# Altium schematic symbol library FOTA.SchLib: 44 symbols (part 1 of 2)
Pins are listed as number, name and electrical type; pins without a type are passive.

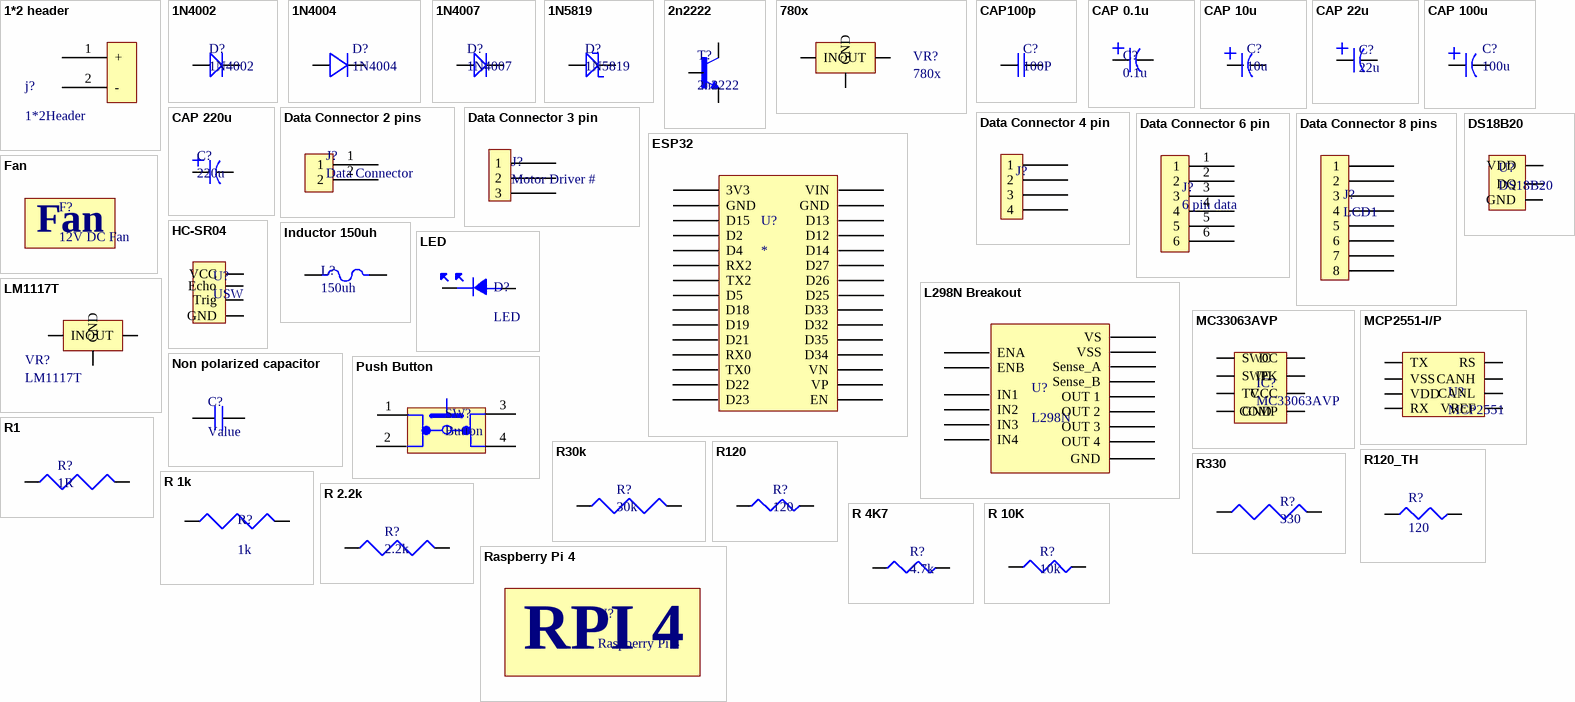
[diagram p0: symbols 1*2 header to Raspberry Pi 4]

## 1*2 header
designator j?, comment 1*2Header
KK 254 Wire-to-Board Header Single Row Vertical 2 Circuits PA Polyamide Nylon Tin (Sn) Plating; Manufacturer 1: Molex; Supplier 1: Arrow Electronics; Manufacturer Part Number 1: 22-03-2021; Stock 1: 78398; Pricing 1: 1=0.23740, 10=0.19080, 100=0.13550, 1000=0.10500, 5000=0.09230, 10000=0.08350 (USD); RoHS: Yes; ComponentLink1URL: https://datasheet.ciiva.com/9468/0022032021-pcb-headers-9468354.pdf?src-supplier=Avnet; ComponentLink1Description: https://datasheet.ciiva.com/9468/0022032021-pcb-headers-9468354.pdf?src-supplier=Avnet; ComponentLink2URL: https://datasheet.ciiva.com/19462/1965656-19462305.pdf?src-supplier=Jameco; ComponentLink2Description: https://datasheet.ciiva.com/19462/1965656-19462305.pdf?src-supplier=Jameco; ComponentLink3URL: https://datasheet.ciiva.com/5148/0022032021-pcb-headers-158299-5148136.pdf?src-supplier=Mouser; ComponentLink3Description: https://datasheet.ciiva.com/5148/0022032021-pcb-headers-158299-5148136.pdf?src-supplier=Mouser; ComponentLink4URL: https://datasheet.ciiva.com/30180/212430022032021-pcb-headers-30180093.pdf?src-supplier=Onlinecomponents.com; ComponentLink4Description: https://datasheet.ciiva.com/30180/212430022032021-pcb-headers-30180093.pdf?src-supplier=Onlinecomponents.com; ComponentLink5URL: https://datasheet.ciiva.com/11746/0900766b80027332-11746319.pdf?src-supplier=RSComponents; ComponentLink5Description: https://datasheet.ciiva.com/11746/0900766b80027332-11746319.pdf?src-supplier=RSComponents; ComponentLink6URL: https://datasheet.ciiva.com/15217/getdatasheetpartid-176622-15217525.pdf?src-supplier=Verical; ComponentLink6Description: https://datasheet.ciiva.com/15217/getdatasheetpartid-176622-15217525.pdf?src-supplier=Verical; ComponentLink7URL: https://datasheet.ciiva.com/7920/7400-7920679.pdf?src-supplier=Element14; ComponentLink7Description: https://datasheet.ciiva.com/7920/7400-7920679.pdf?src-supplier=Element14; ComponentLink8URL: https://datasheet.ciiva.com/1433/1831754-1433541.pdf?src-supplier=Element14; ComponentLink8Description: https://datasheet.ciiva.com/1433/1831754-1433541.pdf?src-supplier=Element14; Supplier Part Number 1: 22-03-2021; category: Connectors
footprint 1*2 PinHeader
pins: 1 +, 2 -

## 1N4002
designator D?
Standard Recovery Rectifier DO-41, 100V, 1.00A; Manufacturer 1: NTE Electronics; Forward Current: 1A; Forward Voltage: 1V; Max Forward Surge Current (Ifsm): 30A; Element Configuration: Single; Capacitance: 15pF; Supplier 1: Allied Electronics; Manufacturer Part Number 1: 1N4002; Stock 1: 0; Pricing 1: 1=0.05000 (USD); RoHS: Yes; Case/Package: DO-41; Number of Pins: 2; Min Operating Temperature: -65°C; Max Operating Temperature: 125°C; Max Repetitive Reverse Voltage (Vrrm): 100V; Polarity: Standard; Packaging: Bulk; Voltage Rating (DC): 100V; Current Rating: 1A; Output Current: 1A; REACH SVHC: No SVHC; Lead Free: Lead Free; RoHS Compliant: Yes; ComponentLink1URL: http://www.alliedelec.com/m/d/37ca6d861d846104cbe1de8cf15a3a7f.pdf?src-supplier=Allied+Electronics; ComponentLink1Description: http://www.alliedelec.com/m/d/37ca6d861d846104cbe1de8cf15a3a7f.pdf?src-supplier=Allied+Electronics; Supplier Part Number 1: 70723001; Category: Discrete Semiconductor Products
footprint Diode
pins: 1, 2

## 1N4004
designator D?
Rectifier Diode, 1 Element, 1A, 400V V(RRM), Silicon, DO-41; Manufacturer 1: ON Semiconductor / Fairchild; Max Surge Current: 30A; Forward Voltage: 1.1V; Max Reverse Current: 5uA; Power Dissipation: 3W; Element Configuration: Single; Polarity: Standard; Capacitance: 15pF; Supplier 1: Digi-Key; Manufacturer Part Number 1: 1N4004; Stock 1: 0; Pricing 1: 1=0.18000, 10=0.16800, 100=0.09120, 500=0.05614, 1000=0.03827 (USD); RoHS: Yes; Mount: Through Hole; Number of Pins: 2; Weight: 0.245g; Contact Plating: Tin,Matte; Min Operating Temperature: -55°C; Max Operating Temperature: 175°C; Packaging: Tape and Reel; Forward Current: 1A; Package Quantity: 1000; Average Rectified Current: 1A; Max Repetitive Reverse Voltage (Vrrm): 400V; Max Forward Surge Current (Ifsm): 30A; Peak Non-Repetitive Surge Current: 30A; Voltage Rating (DC): 400V; Current Rating: 1A; Output Current: 1A; Max Reverse Voltage (DC): 400V; Reverse Voltage: 400V; Diameter: 2.72mm; Length: 5.2mm; Width: 0.25inch; Height: 5.2mm; Radiation Hardening: No; REACH SVHC: No SVHC; Lead Free: Lead Free; RoHS Compliant: Yes; ComponentLink1URL: https://datasheet.ciiva.com/16741/1n4004-16741223.pdf?src-supplier=Future+Electronics; ComponentLink1Description: https://datasheet.ciiva.com/16741/1n4004-16741223.pdf?src-supplier=Future+Electronics; ComponentLink2URL: https://datasheet.ciiva.com/30479/0900766b810c07cd-30479537.pdf?src-supplier=RSComponents; ComponentLink2Description: https://datasheet.ciiva.com/30479/0900766b810c07cd-30479537.pdf?src-supplier=RSComponents; ComponentLink3URL: https://datasheet.ciiva.com/15208/getdatasheetpartid-127807-15208348.pdf?src-supplier=Verical; ComponentLink3Description: https://datasheet.ciiva.com/15208/getdatasheetpartid-127807-15208348.pdf?src-supplier=Verical; ComponentLink4URL: https://datasheet.ciiva.com/7965/1880997-7965279.pdf?src-supplier=Element14; ComponentLink4Description: https://datasheet.ciiva.com/7965/1880997-7965279.pdf?src-supplier=Element14; ComponentLink5URL: https://datasheet.ciiva.com/910/1n4001-910367.pdf?src-supplier=Digi-Key; ComponentLink5Description: https://datasheet.ciiva.com/910/1n4001-910367.pdf?src-supplier=Digi-Key; ComponentLink6URL: https://datasheet.ciiva.com/910/1n4001-910366.pdf?src-supplier=Digi-Key; ComponentLink6Description: https://datasheet.ciiva.com/910/1n4001-910366.pdf?src-supplier=Digi-Key; ComponentLink7URL: https://datasheet.ciiva.com/927/1n4001-d-927543.pdf?src-supplier=Digi-Key; ComponentLink7Description: https://datasheet.ciiva.com/927/1n4001-d-927543.pdf?src-supplier=Digi-Key; ComponentLink8URL: https://datasheet.ciiva.com/48686/001262763-da-01-en-diode-gen-purpose-400v-1n4004-do-41-fsc-48686278.pdf?src-supplier=Conrad; ComponentLink8Description: https://datasheet.ciiva.com/48686/001262763-da-01-en-diode-gen-purpose-400v-1n4004-do-41-fsc-48686278.pdf?src-supplier=Conrad; Supplier Part Number 1: 1N4004FSCT-ND; Category: Discrete Semiconductor Products
footprint Diode
footprint Diode
footprint Diode
pins: 1, 2

## 1N4007
designator D?
Standard Recovery Rectifier DO-41, 1000V, 1.00A; Manufacturer 1: NTE Electronics; Max Reverse Current: 5uA; Forward Current: 1A; Max Repetitive Reverse Voltage (Vrrm): 1kV; Forward Voltage: 480mV; Max Forward Surge Current (Ifsm): 30A; Element Configuration: Single; Capacitance: 15pF; Supplier 1: Allied Electronics; Manufacturer Part Number 1: 1N4007; Stock 1: 7730; Pricing 1: 20=0.07300, 100=0.06900 (USD); RoHS: Yes; Mount: Through Hole; Case/Package: DO-41; Number of Pins: 2; Min Operating Temperature: -65°C; Max Operating Temperature: 150°C; Peak Non-Repetitive Surge Current: 30A; Polarity: Standard; Packaging: Cut Tape; Voltage Rating (DC): 1kV; Current Rating: 1A; Output Current: 1A; REACH SVHC: Unknown; Lead Free: Lead Free; RoHS Compliant: Yes; ComponentLink1URL: https://datasheet.ciiva.com/1239/1n4001-07-1239312.pdf?src-supplier=Newark; ComponentLink1Description: https://datasheet.ciiva.com/1239/1n4001-07-1239312.pdf?src-supplier=Newark; ComponentLink2URL: https://datasheet.ciiva.com/7624/1n4001-07-7624425.pdf?src-supplier=Element14; ComponentLink2Description: https://datasheet.ciiva.com/7624/1n4001-07-7624425.pdf?src-supplier=Element14; ComponentLink3URL: https://datasheet.ciiva.com/16235/1n4001-07-16235595.pdf?src-supplier=Onlinecomponents.com; ComponentLink3Description: https://datasheet.ciiva.com/16235/1n4001-07-16235595.pdf?src-supplier=Onlinecomponents.com; Supplier Part Number 1: 70723033; Category: Discrete Semiconductor Products
footprint Diode
pins: 1 3, 2

## 1N5819
designator D?
Schottky Diode, DO-15, 40V, 1.00A; Manufacturer 1: STMicroelectronics; Max Surge Current: 25A; Forward Current: 1A; Max Reverse Current: 500uA; Forward Voltage: 550mV; Element Configuration: Single; Polarity: Standard; Capacitance: 110pF; Supplier 1: Arrow Electronics; Manufacturer Part Number 1: 1N5819; Stock 1: 8000; Pricing 1: 2000=0.08590 (USD); RoHS: Yes; Mount: Through Hole; Case/Package: DO-41; Number of Pins: 2; Weight: 0.01lb; Contact Plating: Tin,Matte; Min Operating Temperature: -65°C; Max Operating Temperature: 150°C; Package Quantity: 2000; Packaging: Cut Tape; Average Rectified Current: 1A; Max Reverse Leakage Current: 500uA; Max Repetitive Reverse Voltage (Vrrm): 40V; Max Forward Surge Current (Ifsm): 25A; Peak Non-Repetitive Surge Current: 25A; Voltage Rating (DC): 40V; Current Rating: 1A; Output Current: 1A; Max Reverse Voltage (DC): 40V; Series: -; Diameter: 2.71mm; Length: 5.2mm; Width: 2.7mm; Height: 2.7mm; Radiation Hardening: No; REACH SVHC: No SVHC; Lead Free: Lead Free; RoHS Compliant: Yes; ComponentLink1URL: https://datasheet.ciiva.com/26338/155460-da-01-en-diode-1n5819-stm-26338798.pdf?src-supplier=Conrad; ComponentLink1Description: https://datasheet.ciiva.com/26338/155460-da-01-en-diode-1n5819-stm-26338798.pdf?src-supplier=Conrad; ComponentLink2URL: https://datasheet.ciiva.com/16303/cd00001625-16303290.pdf?src-supplier=Future+Electronics; ComponentLink2Description: https://datasheet.ciiva.com/16303/cd00001625-16303290.pdf?src-supplier=Future+Electronics; ComponentLink3URL: https://datasheet.ciiva.com/915/cd00001625-915556.pdf?src-supplier=Digi-Key; ComponentLink3Description: https://datasheet.ciiva.com/915/cd00001625-915556.pdf?src-supplier=Digi-Key; ComponentLink4URL: https://datasheet.ciiva.com/915/cd00001625-915555.pdf?src-supplier=Digi-Key; ComponentLink4Description: https://datasheet.ciiva.com/915/cd00001625-915555.pdf?src-supplier=Digi-Key; ComponentLink5URL: https://datasheet.ciiva.com/14557/70013816-14557645.pdf?src-supplier=Allied+Electronics; ComponentLink5Description: https://datasheet.ciiva.com/14557/70013816-14557645.pdf?src-supplier=Allied+Electronics; ComponentLink6URL: https://datasheet.ciiva.com/1177/1449529-1177085.pdf?src-supplier=Element14; ComponentLink6Description: https://datasheet.ciiva.com/1177/1449529-1177085.pdf?src-supplier=Element14; Supplier Part Number 1: 1N5819; Category: Discrete Semiconductor Products
footprint Diode
pins: 1, 2

## 2n2222
designator T?
footprint TRANS
pins: 1 E, 2 B, 3 C

## 780x
designator VR?
Linear Voltage Regulator, 1 A, 5 to 24 V, Positive Vout: 5.0 V; TJ = -40°C to +125°C; Manufacturer 1: ON Semiconductor; Manufacturer Part Number 1: MC7805ABTG; Max Input Voltage: 35V; Dropout Voltage: 2V; Output Current: 1A; Number of Outputs: 1; Output Voltage: 5V; Min Input Voltage: 7V; Quiescent Current: 6mA; Accuracy: 4%; Power Supply Rejection Ratio (PSRR): 83dB; Output Type: Fixed; Supplier 1: Arrow Electronics; Stock 1: 178; Pricing 1: 1=1.02250, 10=0.81140, 100=0.63460, 250=0.57590 (USD); RoHS: Yes; Mount: Through Hole; Case/Package: TO-220; Number of Pins: 3; Weight: 0.01lb; Contact Plating: Tin,Matte; Min Operating Temperature: -40°C; Max Operating Temperature: 125°C; Packaging: Rail/Tube; Nominal Output Voltage: 5V; Max Output Current: 1A; Package Quantity: 50; Polarity: Positive; Number of Regulators: 1; Min Output Voltage: 5V; Output Voltage Accuracy: 4%; Series: -; Length: 10.28mm; Width: 4.82mm; Height: 30.02mm; Radiation Hardening: No; REACH SVHC: No SVHC; Lead Free: Lead Free; Halogen Free: Halogen Free; RoHS Compliant: Yes; ComponentLink1URL: https://datasheet.ciiva.com/8073/87758-8073882.pdf?src-supplier=Element14; ComponentLink1Description: https://datasheet.ciiva.com/8073/87758-8073882.pdf?src-supplier=Element14; ComponentLink2URL: https://datasheet.ciiva.com/28643/1726421-28643195.pdf?src-supplier=Element14; ComponentLink2Description: https://datasheet.ciiva.com/28643/1726421-28643195.pdf?src-supplier=Element14; ComponentLink3URL: https://datasheet.ciiva.com/8234/mc7800-d-8234030.pdf?src-supplier=Avnet; ComponentLink3Description: https://datasheet.ciiva.com/8234/mc7800-d-8234030.pdf?src-supplier=Avnet; ComponentLink4URL: https://datasheet.ciiva.com/16449/mc7800-d-16449742.pdf?src-supplier=Future+Electronics; ComponentLink4Description: https://datasheet.ciiva.com/16449/mc7800-d-16449742.pdf?src-supplier=Future+Electronics; ComponentLink5URL: https://datasheet.ciiva.com/2044/mc7800-d-2044463.pdf?src-supplier=Digi-Key; ComponentLink5Description: https://datasheet.ciiva.com/2044/mc7800-d-2044463.pdf?src-supplier=Digi-Key; Category: Integrated Circuits (ICs); Supplier Part Number 1: MC7805ABTG
footprint 78xx
pins: 1 IN, 2 GND, 3 OUT

## CAP100p
designator C?, comment 100P
Cap Ceramic 100pF 3000V C0G 5% Radial 5.08mm 125°C Extreme Low ESR Bulk; Manufacturer 1: KEMET; Manufacturer Part Number 1: C330C101JHG5TA; Voltage Rating: 3kV; Temperature Coefficient: 30ppm/°C; Dissipation Factor: 0.1%; Lead/Base Style: Straight; Lead Diameter: 0.51mm; Lead Length: 7mm; Supplier 1: Arrow Electronics; Stock 1: 250; Pricing 1: 1=2.48600, 10=1.69970, 25=1.68270, 50=1.50330, 100=1.27620, 500=0.99250 (USD); RoHS: Yes; Mount: Through Hole; Case/Package: Radial; Number of Pins: 2; Min Operating Temperature: -55°C; Max Operating Temperature: 125°C; Capacitance: 100pF; Tolerance: 5%; Dielectric: C0G; Packaging: Bulk; Termination: Radial; Voltage Rating (DC): 3kV; Package Quantity: 250; Length: 7.62mm; Width: 7.62mm; Height: 3.81mm; Lead Pitch: 5.08mm; Depth: 6.35mm; Height - Seated (Max): 0.36inch; Pitch: 5.08mm; Radiation Hardening: No; RoHS Compliant: Yes; REACH SVHC: No SVHC; Lead Free: Lead Free; ComponentLink1URL: https://datasheet.ciiva.com/28645/706880-28645882.pdf?src-supplier=Element14; ComponentLink1Description: https://datasheet.ciiva.com/28645/706880-28645882.pdf?src-supplier=Element14; ComponentLink2URL: https://datasheet.ciiva.com/41659/f3101-goldmax-41659614.pdf?src-supplier=Farnell; ComponentLink2Description: https://datasheet.ciiva.com/41659/f3101-goldmax-41659614.pdf?src-supplier=Farnell; ComponentLink3URL: https://datasheet.ciiva.com/203/f3101-goldmax-203490.pdf?src-supplier=Digi-Key; ComponentLink3Description: https://datasheet.ciiva.com/203/f3101-goldmax-203490.pdf?src-supplier=Digi-Key; Category: Capacitors; Supplier Part Number 1: C330C101JHG5TA
footprint 100p
pins: 1, 2

## CAP 0.1u
designator C?, comment 0.1u
Capacitor 0.1 uF 100 Volt 20% 5 X 11mm Radial 2mm 2.1mA 2000 Hr; Manufacturer 1: Nichicon; Manufacturer Part Number 1: UVR2A0R1MDD; Dielectric Material: Aluminium; Capacitance: 100nF; Voltage Rating: 100V; Leakage Current: 4uA; Life (Hours): 2000Hour; Dissipation Factor: 0.08%; Lead Diameter: 0.5mm; Supplier 1: Arrow Electronics; Stock 1: 37; Pricing 1: 1=0.27830, 10=0.18880, 50=0.12550, 100=0.08990, 600=0.07330, 1000=0.06380, 2000=0.05950, 5000=0.05890, 10000=0.05840 (USD); RoHS: Yes; Mount: Through Hole,PCB; Case/Package: Radial; Number of Pins: 2; Min Operating Temperature: -40°C; Max Operating Temperature: 85°C; Package Quantity: 200; Tolerance: 20%; Ripple Current: 2.1mA; Packaging: Bulk; Voltage Rating (DC): 100V; Termination: Radial; Voltage: 100V; Series: VR; Construction: RADIAL; Diameter: 5mm; Length: 11mm; Height: 11mm; Lead Pitch: 2mm; Height - Seated (Max): 0.433inch; Radiation Hardening: No; Lead Free: Lead Free; RoHS Compliant: Yes; ComponentLink1URL: https://datasheet.ciiva.com/97/e-vr-97344.pdf?src-supplier=Digi-Key; ComponentLink1Description: https://datasheet.ciiva.com/97/e-vr-97344.pdf?src-supplier=Digi-Key; ComponentLink2URL: https://datasheet.ciiva.com/14587/70187464-14587865.pdf?src-supplier=Allied+Electronics; ComponentLink2Description: https://datasheet.ciiva.com/14587/70187464-14587865.pdf?src-supplier=Allied+Electronics; ComponentLink3URL: https://datasheet.ciiva.com/11688/e-vr-11688671.pdf?src-supplier=Avnet; ComponentLink3Description: https://datasheet.ciiva.com/11688/e-vr-11688671.pdf?src-supplier=Avnet; Supplier Part Number 1: UVR2A0R1MDD; Category: Capacitor
footprint CapacitorPOL
pins: 1 3, 2

## CAP 10u
designator C?, comment 10u
10uF 35 V dc Aluminium Electrolytic Capacitor; BX Series 1000h 10(Dia.)x12.5mm; Manufacturer 1: Nichicon; Manufacturer Part Number 1: UBX1V100MPL; Tolerance: 20%; Ripple Current: 175mA; Voltage Rating: 35V; Leakage Current: 4uA; Life (Hours): 1000Hour; Dissipation Factor: 0.12%; Lead Diameter: 0.6mm; Supplier 1: Digi-Key; Stock 1: 5; Pricing 1: 1=1.40000, 10=1.10300, 50=0.95620, 100=0.82750, 500=0.62520, 1000=0.55166, 2500=0.51488, 5000=0.49649 (USD); RoHS: Yes; Mount: Through Hole; Case/Package: Radial; Min Operating Temperature: -55°C; Max Operating Temperature: 150°C; Capacitance: 10uF; Package Quantity: 200; Packaging: Bulk; Voltage Rating (DC): 35V; Termination: Radial; Voltage: 35V; Series: UBX; Construction: RADIAL; Diameter: 10mm; Length: 12.5mm; Height: 12.5mm; Lead Pitch: 5mm; Height - Seated (Max): 0.551inch; Radiation Hardening: No; RoHS Compliant: Yes; ComponentLink1URL: https://datasheet.ciiva.com/11778/0900766b80ec9534-11778134.pdf?src-supplier=RSComponents; ComponentLink1Description: https://datasheet.ciiva.com/11778/0900766b80ec9534-11778134.pdf?src-supplier=RSComponents; ComponentLink2URL: https://datasheet.ciiva.com/41750/444350-da-01-en-radial-elko-bx-10uf-35-v-41750976.pdf?src-supplier=Conrad; ComponentLink2Description: https://datasheet.ciiva.com/41750/444350-da-01-en-radial-elko-bx-10uf-35-v-41750976.pdf?src-supplier=Conrad; ComponentLink3URL: https://datasheet.ciiva.com/115/e-bx-115042.pdf?src-supplier=Digi-Key; ComponentLink3Description: https://datasheet.ciiva.com/115/e-bx-115042.pdf?src-supplier=Digi-Key; Category: Capacitor; Supplier Part Number 1: 493-14906-ND
footprint CapacitorPOL
pins: 1 3, 2

## CAP 22u
designator C?, comment 22u
Aluminum Electrolytic Capacitor 22 microfarad 50 VDC; Manufacturer 1: CDE Illinois Capacitor; Manufacturer Part Number 1: 226CKH050M; Dielectric Material: Aluminium; Ripple Current: 80mA; Capacitance: 22uF; Tolerance: 20%; Voltage Rating: 50V; ESR (Equivalent Series Resistance): 7.536R; Polarity: Polar; Life (Hours): 2000Hour; Supplier 1: Farnell; Stock 1: 2; Pricing 1: 1=0.20800, 2=0.18000, 3=0.15200, 5=0.12400, 10=0.09660, 20=0.09470, 50=0.09270 (GBP); RoHS: Yes; Mount: Through Hole,PCB; Case/Package: Radial; Number of Pins: 2; Min Operating Temperature: -40°C; Max Operating Temperature: 105°C; Voltage Rating (DC): 50V; Package Quantity: 1000; Packaging: Bulk; Diameter: 5mm; Height: 11mm; Lead Pitch: 0.079inch; Height - Seated (Max): 0.492inch; REACH SVHC: No SVHC; Lead Free: Lead Free; ComponentLink1URL: https://datasheet.ciiva.com/16368/lytics-products-detail-623-16368212.pdf?src-supplier=Future+Electronics; ComponentLink1Description: https://datasheet.ciiva.com/16368/lytics-products-detail-623-16368212.pdf?src-supplier=Future+Electronics; ComponentLink2URL: https://datasheet.ciiva.com/14588/70111748-14588463.pdf?src-supplier=Allied+Electronics; ComponentLink2Description: https://datasheet.ciiva.com/14588/70111748-14588463.pdf?src-supplier=Allied+Electronics; Supplier Part Number 1: 2841829
footprint CapacitorPOL
pins: 1 3, 2

## CAP 100u
designator C?, comment 100u
Cap Aluminum 100uF 25V 20% (10 X 12mm) Radial Aluminum Cylindrical Can 5mm 250mA 1000 hr 150°C Bulk; Manufacturer 1: Vishay BCcomponents; Manufacturer Part Number 1: MAL216056101E3; Polarity: Polar; Ripple Current: 175mA; Impedance: 120mR; Life (Hours): 1000Hour; Supplier 1: Digi-Key; Stock 1: 2988; Pricing 1: 1=1.67000, 10=1.31800, 50=1.14220, 100=0.98840, 500=0.74680, 1000=0.65895, 2500=0.61502, 5000=0.59306 (USD); RoHS: Yes; Mount: Through Hole; Case/Package: Radial; Min Operating Temperature: -55°C; Max Operating Temperature: 150°C; Package Quantity: 1000; Packaging: Bulk; Capacitance: 100uF; Voltage Rating: 25V; Tolerance: 20%; Voltage Rating (DC): 25V; Diameter: 10mm; Height: 12mm; Lead Pitch: 0.197inch; Height - Seated (Max): 0.531inch; REACH SVHC: Unknown; RoHS Compliant: Yes; ComponentLink1URL: http://www.farnell.com/datasheets/2057608.pdf?src-supplier=Element14; ComponentLink1Description: http://www.farnell.com/datasheets/2057608.pdf?src-supplier=Element14; ComponentLink2URL: http://www.vishay.com/docs/49448/_alu_caps_smd_radial_axial_vmn-sg2185-1512.pdf?src-supplier=Digi-Key; ComponentLink2Description: http://www.vishay.com/docs/49448/_alu_caps_smd_radial_axial_vmn-sg2185-1512.pdf?src-supplier=Digi-Key; Supplier Part Number 1: 4837PHBK-ND; Category: Capacitors
footprint CapacitorPOL
pins: 1 3, 2

## CAP 220u
designator C?, comment 220u
Cap Aluminum Lytic 220uF 35V 20% (8 X 11.5mm) Radial 3.5mm 945mA 8000h 105C Ammo Pack; Manufacturer 1: Rubycon; Manufacturer Part Number 1: 35ZLH220MEFCT78X11.5; Ripple Current: 472.5mA; Impedance: 56mR; Life (Hours): 8000Hour; Supplier 1: Digi-Key; Stock 1: 214966; Pricing 1: 1=0.49000, 10=0.34200, 50=0.23940, 100=0.20530, 500=0.15396 (USD); RoHS: Yes; Mount: Through Hole; Case/Package: Radial; Min Operating Temperature: -40°C; Max Operating Temperature: 105°C; Capacitance: 220uF; Tolerance: 20%; Package Quantity: 2000; Packaging: Tape and Reel; Voltage Rating: 35V; Termination: Radial; Series: ZLH; Diameter: 8mm; Height: 11.5mm; Lead Pitch: 0.138inch; Height - Seated (Max): 0.512inch; Radiation Hardening: No; RoHS Compliant: Yes; ComponentLink1URL: https://datasheet.ciiva.com/11691/e-zlh-11691624.pdf?src-supplier=Avnet; ComponentLink1Description: https://datasheet.ciiva.com/11691/e-zlh-11691624.pdf?src-supplier=Avnet; Supplier Part Number 1: 1189-4002-1-ND; Category: Capacitors
pins: 1 3, 2

## Data Connector 2 pins
designator J?, comment Data Connector
footprint Data Connnector 2 pins
footprint Data Connnector 2 pins
pins: 1, 2

## Data Connector 3 pin
designator J?, comment Motor Driver #
footprint Data Connnector 3 pins
pins: 1, 2, 3

## Data Connector 4 pin
designator J?
footprint Data Connnector 4 pins
pins: 1, 2, 3, 4

## Data Connector 6 pin
designator J?, comment 6 pin data
footprint Data Connnector 6 pins
pins: 1, 2, 3, 4, 5, 6

## Data Connector 8 pins
designator J?, comment LCD1
footprint Data Connector 8 pins
pins: 1, 2, 3, 4, 5, 6, 7, 8

## DS18B20
designator U?
SENSOR TEMPERATURE 1-WIRE TO92-3; Manufacturer 1: Maxim; Manufacturer Part Number 1: DS18B20+; Min Supply Voltage: 3V; Max Supply Voltage: 5.5V; Interface: 1-WIRE,Serial; Resolution: 12b; Output Type: Digital,Voltage; Operating Supply Current: 1.5mA; Number of Bits: 12; Nominal Supply Current: 1mA; Output Current: 4mA; Supplier 1: Future Electronics; Stock 1: 0; Pricing 1: 1=5.05000, 10=4.56000, 25=4.38000, 75=4.17000, 150=4.04000 (USD); RoHS: Yes; Mount: PCB,Through Hole; Case/Package: TO-92-3; Number of Pins: 3; Weight: 0.001lb; Min Operating Temperature: -55°C; Max Operating Temperature: 125°C; Packaging: Rail/Tube; Package Quantity: 10; Series: DS18B20; Max Supply Voltage (DC): 5.5V; Min Supply Voltage (DC): 3V; Termination: SMD/SMT; Supply Current: 1mA; Sensor Type: Temperature; Length: 4.95mm; Width: 3.94mm; Height: 4.95mm; Radiation Hardening: No; RoHS Compliant: Yes; REACH SVHC: No SVHC; Lead Free: Lead Free; ComponentLink1URL: https://datasheet.ciiva.com/14100/ds18b20-eng-tds-14100018.pdf?src-supplier=Distrelec; ComponentLink1Description: https://datasheet.ciiva.com/14100/ds18b20-eng-tds-14100018.pdf?src-supplier=Distrelec; ComponentLink2URL: https://datasheet.ciiva.com/19456/865936-19456316.pdf?src-supplier=Jameco; ComponentLink2Description: https://datasheet.ciiva.com/19456/865936-19456316.pdf?src-supplier=Jameco; ComponentLink3URL: https://datasheet.ciiva.com/23809/46379-23809287.pdf?src-supplier=Newark; ComponentLink3Description: https://datasheet.ciiva.com/23809/46379-23809287.pdf?src-supplier=Newark; ComponentLink4URL: https://datasheet.ciiva.com/5696/ds18s20-5696782.pdf?src-supplier=Farnell; ComponentLink4Description: https://datasheet.ciiva.com/5696/ds18s20-5696782.pdf?src-supplier=Farnell; ComponentLink5URL: https://datasheet.ciiva.com/3277/ds18b20-3277869.pdf?src-supplier=Avnet; ComponentLink5Description: https://datasheet.ciiva.com/3277/ds18b20-3277869.pdf?src-supplier=Avnet; ComponentLink6URL: https://datasheet.ciiva.com/2003/ds18b20-2003437.pdf?src-supplier=Digi-Key; ComponentLink6Description: https://datasheet.ciiva.com/2003/ds18b20-2003437.pdf?src-supplier=Digi-Key; Supplier Part Number 1: 6084674
footprint tmp
pins: 1 VDD, 2 DQ, 3 GND

## ESP32
designator U?
footprint ESP32
pins: 1 3V3, 2 GND, 3 D15, 4 D2, 5 D4, 6 RX2, 7 TX2, 8 D5, 9 D18, 10 D19, 11 D21, 12 RX0, 13 TX0, 14 D22, 15 D23, 16 EN, 17 VP, 18 VN, 19 D34, 20 D35, 21 D32, 22 D33, 23 D25, 24 D26, 25 D27, 26 D14, 27 D12, 28 D13, 29 GND, 30 VIN

## Fan
designator F?, comment 12V DC Fan
footprint Fan

## HC-SR04
designator U?, comment USW
Ultrasonic Sensor Module, Rectangular, 20-4000 mm, 5 V, 15 mA, Arduino Compatible; Manufacturer 1: OSEPP; Manufacturer Part Number 1: HC-SR04; Supplier 1: Mouser; Stock 1: 154; Pricing 1: 1=6.55000, 10=6.55000, 50=6.55000, 100=6.55000, 1000=6.55000, 10000=6.55000 (USD); ComponentLink1URL: http://www.alliedelec.com/m/d/24ef524bf2e055bb41c3e7d4403161f4.pdf?src-supplier=Allied+Electronics; ComponentLink1Description: http://www.alliedelec.com/m/d/24ef524bf2e055bb41c3e7d4403161f4.pdf?src-supplier=Allied+Electronics; ComponentLink2URL: https://datasheet.octopart.com/HC-SR04-OSEPP-datasheet-46721640.pdf?src-supplier=Allied+Electronics; ComponentLink2Description: https://datasheet.octopart.com/HC-SR04-OSEPP-datasheet-46721640.pdf?src-supplier=Allied+Electronics; Supplier Part Number 1: 375-HC-SR04; Category: Development Boards, Kits, Programmers
footprint hc-sr04
pins: 1 VCC, 2 Trig, 3 Echo, 4 GND

## Inductor 150uh
designator L?, comment 150uh
Inductor General Purpose Wirewound 150uH 10% 1KHz 820mA 330mOhm DCR RDL Carton; Manufacturer 1: Murata; Manufacturer Part Number 1: 13R154C; Shielding: Unshielded; DC Resistance (DCR): 330mR; Lead/Base Style: Radial; Lead Diameter: 0.65mm; Supplier 1: Arrow Electronics; Stock 1: 161; Pricing 1: 1=0.54070 (USD); RoHS: Yes; Mount: Through Hole; Case/Package: Radial; Number of Pins: 2; Contact Plating: Tin,Bright; Min Operating Temperature: -40°C; Max Operating Temperature: 85°C; Inductance Tolerance: 10%; Package Quantity: 200; Current Rating: 820mA; Tolerance: 10%; Packaging: Bulk; Resistor Type: Wirewound; Inductance: 150uH; Test Frequency: 1kHz; Max DC Current: 820mA; Termination: Radial; RMS Current (Irms): 820mA; Saturation Current: 820mA; DC Current: 820mA; Self Resonant Frequency: 1kHz; Type: General Purpose; Diameter: 9.5mm; Length: 13.5mm; Height: 13.5mm; Height - Seated (Max): 0.531inch; Lead Pitch: 5mm; Radiation Hardening: No; REACH SVHC: No SVHC; Military Standard: Not; RoHS Compliant: Yes; ComponentLink1URL: https://datasheet.ciiva.com/8110/kmp-1300r-8110602.pdf?src-supplier=Avnet; ComponentLink1Description: https://datasheet.ciiva.com/8110/kmp-1300r-8110602.pdf?src-supplier=Avnet; ComponentLink2URL: https://datasheet.ciiva.com/8035/1484721-8035661.pdf?src-supplier=Element14; ComponentLink2Description: https://datasheet.ciiva.com/8035/1484721-8035661.pdf?src-supplier=Element14; ComponentLink3URL: https://datasheet.ciiva.com/1127/1484721-1127957.pdf?src-supplier=Element14; ComponentLink3Description: https://datasheet.ciiva.com/1127/1484721-1127957.pdf?src-supplier=Element14; ComponentLink4URL: https://datasheet.ciiva.com/1061/kmp-1300r-1061302.pdf?src-supplier=Digi-Key; ComponentLink4Description: https://datasheet.ciiva.com/1061/kmp-1300r-1061302.pdf?src-supplier=Digi-Key; Supplier Part Number 1: 13R154C; Category: Inductors, Coils, Chokes
footprint 150ul
pins: 1, 2

## L298N Breakout
designator U?, comment L298N
footprint L298
pins: 1 OUT 4, 2 OUT 3, 3 OUT 2, 4 OUT 1, 5 IN4, 6 IN3, 7 IN2, 8 IN1, 9 ENB, 10 ENA, 11 Sense_B, 12 Sense_A, 13 VSS, 14 VS, 15 GND

## LED
designator D?
Led, Red, T-1 (3Mm), 630 Nm, 1.8 V, 30 Ma, 20 Mcd Rohs Compliant: Yes; Manufacturer 1: Wurth Electronics; Manufacturer Part Number 1: 151031SS06000; Wavelength: 630nm; Luminous Intensity: 35mcd; Viewing Angle: 60°; Forward Voltage: 2.2V; Lens Style: Diffused,Circular,Round; Dominant Wavelength: 640nm; Test Current: 20mA; Forward Current: 30mA; Supplier 1: Digi-Key; Stock 1: 4849; Pricing 1: 1=0.18000, 50=0.16700, 100=0.14300, 500=0.12300 (USD); RoHS: Yes; Mount: Through Hole; Case/Package: Radial; Color: Red; Min Operating Temperature: -40°C; Max Operating Temperature: 85°C; Package Quantity: 1; Packaging: Bulk; Height: 5.55mm; Lens Size: 3mm; REACH SVHC: Unknown; RoHS Compliant: Yes; ComponentLink1URL: https://datasheet.ciiva.com/22657/151031ss06000-22657010.pdf?src-supplier=Element14; ComponentLink1Description: https://datasheet.ciiva.com/22657/151031ss06000-22657010.pdf?src-supplier=Element14; ComponentLink2URL: https://datasheet.ciiva.com/29335/759483-da-01-en-tht-led-3mm-superrot-151031ss06000-29335440.pdf?src-supplier=Conrad; ComponentLink2Description: https://datasheet.ciiva.com/29335/759483-da-01-en-tht-led-3mm-superrot-151031ss06000-29335440.pdf?src-supplier=Conrad; ComponentLink3URL: https://datasheet.ciiva.com/29562/151031ss06000-29562907.pdf?src-supplier=Digi-Key; ComponentLink3Description: https://datasheet.ciiva.com/29562/151031ss06000-29562907.pdf?src-supplier=Digi-Key; Supplier Part Number 1: 732-5006-ND; Category: Optoelectronics
footprint LED
pins: 1, 2

## LM1117T
designator VR?
LDO VOLTAGE REGULATOR, 5V, 0.8A, TO-220; ; MSL: MSL 1 - Unlimited; SVHC: No SVHC (15-Jan-2019); Manufacturer 1: TI National Semiconductor; Manufacturer Part Number 1: LM1117T-5.0/NOPB; Dropout Voltage: 1.2V; Output Current: 800mA; Number of Outputs: 1; Max Input Voltage: 15V; Polarity: Positive; Quiescent Current: 5mA; Accuracy: 1%; Output Type: Fixed; Supplier 1: Digi-Key; Stock 1: 16540; Pricing 1: 1=1.77000, 10=1.59000, 25=1.50000, 100=1.27790, 250=1.19992, 500=1.04992, 1000=0.99050 (USD); RoHS: Yes; Mount: Through Hole; Case/Package: TO-220; Number of Pins: 3; Weight: 0.01lb; Contact Plating: Tin,Matte; Min Operating Temperature: -40°C; Max Operating Temperature: 125°C; Package Quantity: 45; Output Voltage: 5V; Packaging: Rail/Tube; Max Output Current: 800mA; Nominal Output Voltage: 5V; Number of Regulators: 1; Min Current Limit: 800mA; Output Voltage Accuracy: 1%; Length: 10.16mm; Width: 4.7mm; Height: 8.89mm; Radiation Hardening: No; REACH SVHC: No SVHC; Lead Free: Lead Free; RoHS Compliant: Yes; ComponentLink1URL: https://datasheet.ciiva.com/27055/1992099-27055812.pdf?src-supplier=Jameco; ComponentLink1Description: https://datasheet.ciiva.com/27055/1992099-27055812.pdf?src-supplier=Jameco; ComponentLink2URL: https://datasheet.ciiva.com/41457/001013631-da-01-en-ic-reg-ldo-lm1117t-5-0-nopb-to-220-3-tid-41457413.pdf?src-supplier=Conrad; ComponentLink2Description: https://datasheet.ciiva.com/41457/001013631-da-01-en-ic-reg-ldo-lm1117t-5-0-nopb-to-220-3-tid-41457413.pdf?src-supplier=Conrad; ComponentLink3URL: https://datasheet.ciiva.com/14150/ialm1117t-e-14150011.pdf?src-supplier=Distrelec; ComponentLink3Description: https://datasheet.ciiva.com/14150/ialm1117t-e-14150011.pdf?src-supplier=Distrelec; ComponentLink4URL: https://datasheet.ciiva.com/6580/lm1117-n-6580309.pdf?src-supplier=Digi-Key; ComponentLink4Description: https://datasheet.ciiva.com/6580/lm1117-n-6580309.pdf?src-supplier=Digi-Key; Supplier Part Number 1: LM1117T-5.0/NOPB-ND
footprint LM1117T
pins: 1 IN, 2 GND, 3 OUT

## MC33063AVP
designator IC?
DC DC Cntrlr Single-OUT Step Up/Step Down 3V to 40V Input 8-Pin PDIP; Manufacturer 1: ON Semiconductor; Number of Outputs: 1; Switching Frequency: 33kHz; Output Current: 1.5A; Synchronous Rectifier: No; Output Type: Adjustable; Supplier 1: Avnet; Manufacturer Part Number 1: MC33063AVP; Stock 1: 200662; Pricing 1: 1233=0.30014, 1300=0.29203, 2500=0.28392, 6200=0.27581, 13000=0.26770, 62000=0.25958, 130000=0.25147 (USD); RoHS: No; Mount: Through Hole; Case/Package: DIP; Number of Pins: 8; Min Operating Temperature: -40°C; Max Operating Temperature: 125°C; Packaging: Rail/Tube; Package Quantity: 50; Output Voltage: 40V; Series: -; Lead Free: Contains Lead; RoHS Compliant: No; ComponentLink1URL: https://datasheet.ciiva.com/2038/mc34063a-d-2038137.pdf?src-supplier=Digi-Key; ComponentLink1Description: https://datasheet.ciiva.com/2038/mc34063a-d-2038137.pdf?src-supplier=Digi-Key; Parameter 1: *
footprint DIP10
pins: 1 DC, 2 IPK, 3 VCC, 4 COMP, 5 SWC, 6 SWE, 7 TC, 8 GND

## MCP2551-I/P
designator U?, comment MCP2551
MCP2551 Series 5.5 V 1 Mb/s Surface Mount High-Speed CAN Transceiver - PDIP-8; Manufacturer 1: Microchip; Manufacturer Part Number 1: MCP2551-I/P; Interface: Serial,CAN; Number of Receivers: 1; Operating Supply Voltage: 5V; Nominal Supply Current: 75mA; Data Rate: 1Mbps; Min Supply Voltage: 4.5V; Max Supply Voltage: 5.5V; Supplier 1: Future Electronics; Stock 1: 570; Pricing 1: 1=1.75000, 30=1.57000, 100=1.51000, 300=1.46000, 1000=1.40000 (USD); RoHS: Yes; Mount: Through Hole; Case/Package: PDIP; Number of Pins: 8; Min Operating Temperature: -40°C; Max Operating Temperature: 85°C; Package Quantity: 60; Packaging: Rail/Tube; Number of Drivers: 1; Number of Receive Buffers: 1; Number of Transmit Buffers: 1; Max Supply Current: 75mA; Number of Transceivers: 1; Logic Function: Transceiver; Number of Functions: 1; Supply Voltage-Nom: 5.5V; Supply Current: 75mA; Length: 9.27mm; Width: 6.35mm; Height: 3.3mm; Radiation Hardening: No; REACH SVHC: No SVHC; Lead Free: Lead Free; RoHS Compliant: Yes; ComponentLink1URL: https://datasheet.ciiva.com/14152/eb644223-644224-e-14152538.pdf?src-supplier=Distrelec; ComponentLink1Description: https://datasheet.ciiva.com/14152/eb644223-644224-e-14152538.pdf?src-supplier=Distrelec; ComponentLink2URL: https://datasheet.ciiva.com/1495/21667f-1495088.pdf?src-supplier=Element14; ComponentLink2Description: https://datasheet.ciiva.com/1495/21667f-1495088.pdf?src-supplier=Element14; ComponentLink3URL: https://datasheet.ciiva.com/18405/70045401-18405559.pdf?src-supplier=Allied+Electronics; ComponentLink3Description: https://datasheet.ciiva.com/18405/70045401-18405559.pdf?src-supplier=Allied+Electronics; ComponentLink4URL: https://datasheet.ciiva.com/8084/21667f-8084591.pdf?src-supplier=Avnet; ComponentLink4Description: https://datasheet.ciiva.com/8084/21667f-8084591.pdf?src-supplier=Avnet; ComponentLink5URL: https://datasheet.ciiva.com/16381/filehandler-aspxddocname-en011797-16381270.pdf?src-supplier=Future+Electronics; ComponentLink5Description: https://datasheet.ciiva.com/16381/filehandler-aspxddocname-en011797-16381270.pdf?src-supplier=Future+Electronics; ComponentLink6URL: https://datasheet.ciiva.com/1700/21667f-1700024.pdf?src-supplier=Digi-Key; ComponentLink6Description: https://datasheet.ciiva.com/1700/21667f-1700024.pdf?src-supplier=Digi-Key; ComponentLink7URL: https://datasheet.ciiva.com/29305/651451-da-01-en-ic-tx-can-mcp2551-i-p-pdip-8-mcp-29305164.pdf?src-supplier=Conrad; ComponentLink7Description: https://datasheet.ciiva.com/29305/651451-da-01-en-ic-tx-can-mcp2551-i-p-pdip-8-mcp-29305164.pdf?src-supplier=Conrad; Supplier Part Number 1: 6665723; Category: Integrated Circuits (ICs)
footprint MCP2551
pins: 1 TX, 2 VSS, 3 VDD, 4 RX, 5 VREF, 6 CANL, 7 CANH, 8 RS

## Non polarized capacitor
designator C?, comment Value
Generial Non polarized capacitor for through hole or SMD capacitors
footprint CAP non
pins: 1, 2

## Push Button
designator SW?, comment Button
footprint DIP4 SW
pins: 1, 2, 3, 4

## R1
designator R?, comment 1R
General Type Carbon Film Resistor 1Ohm 1/4W 5% Axial Bulk; Manufacturer 1: Yageo; Manufacturer Part Number 1: CFR-25JB-52-1R; Temperature Coefficient: 500ppm/°C; Max Power Dissipation: 250mW; Supplier 1: Digi-Key; Stock 1: 41073; Pricing 1: 1=0.10000, 10=0.06800, 25=0.04680, 50=0.03640, 100=0.02600, 250=0.02028, 500=0.01612, 1000=0.01144, 5000=0.00884 (USD); RoHS: Yes; Case/Package: Axial; Min Operating Temperature: -55°C; Max Operating Temperature: 155°C; Package Quantity: 200; Packaging: Bulk; Resistance: 1R; Tolerance: 5%; Resistor Type: Carbon Film; Number of Terminations: 2; Series: Carbon Film; Length: 0.248inch; RoHS Compliant: Yes; ComponentLink1URL: http://www.yageo.com/NewPortal/yageodocoutput?fileName=/pdf/throughhole/Yageo_LR_CFR_2013.pdf&src-supplier=Digi-Key; ComponentLink1Description: http://www.yageo.com/NewPortal/yageodocoutput?fileName=/pdf/throughhole/Yageo_LR_CFR_2013.pdf&src-supplier=Digi-Key
footprint R1
pins: 1, 2

## R30k
designator R?, comment 30k
General Type Carbon Film Resistor 30kOhm 1/4W 5% Axial Bulk; Manufacturer 1: Yageo; Manufacturer Part Number 1: CFR-25JB-52-30K; Resistance: 30kR; Temperature Coefficient: 500ppm/°C; Max Power Dissipation: 250mW; ParametCategoryer 1: Resistors; Supplier 1: Digi-Key; Stock 1: 7748; Pricing 1: 1=0.10000, 10=0.06800, 25=0.04680, 50=0.03640, 100=0.02600, 250=0.02028, 500=0.01612, 1000=0.01144, 5000=0.00884 (USD); RoHS: Yes; Case/Package: Axial; Min Operating Temperature: -55°C; Max Operating Temperature: 155°C; Package Quantity: 200; Packaging: Bulk; Tolerance: 5%; Resistor Type: Carbon Film; Number of Terminations: 2; Series: Carbon Film; Length: 0.248inch; RoHS Compliant: Yes; ComponentLink1URL: http://www.yageo.com/NewPortal/yageodocoutput?fileName=/pdf/throughhole/Yageo_LR_CFR_2013.pdf&src-supplier=Digi-Key; ComponentLink1Description: http://www.yageo.com/NewPortal/yageodocoutput?fileName=/pdf/throughhole/Yageo_LR_CFR_2013.pdf&src-supplier=Digi-Key; Supplier Part Number 1: 30KQBK-ND
footprint R30k
pins: 1, 2

## R120
designator R?, comment 120
General Type Carbon Film Resistor 120Ohm 1/4W 5% Axial Bulk; Manufacturer 1: Yageo; Manufacturer Part Number 1: CFR-25JB-52-120R; Resistance: 120R; Power Rating: 250mW; Temperature Coefficient: 500ppm/°C; Supplier 1: Future Electronics; Stock 1: 7000; Pricing 1: 10000=0.00860, 30000=0.00580, 50000=0.00570, 100000=0.00550, 200000=0.00540 (USD); RoHS: Yes; Case/Package: Axial; Min Operating Temperature: -55°C; Max Operating Temperature: 155°C; Tolerance: 5%; Package Quantity: 200; Packaging: Bulk; Resistor Type: Carbon Film; Number of Terminations: 2; Max Power Dissipation: 250mW; Series: Carbon Film; Length: 0.248inch; Lead Free: Lead Free; RoHS Compliant: Yes; ComponentLink1URL: http://www.yageo.com/documents/recent/General%20Type_CFR.pdf?src-supplier=Future+Electronics; ComponentLink1Description: http://www.yageo.com/documents/recent/General%20Type_CFR.pdf?src-supplier=Future+Electronics; ComponentLink2URL: http://www.yageo.com/NewPortal/yageodocoutput?fileName=/pdf/throughhole/Yageo_LR_CFR_2013.pdf&src-supplier=Digi-Key; ComponentLink2Description: http://www.yageo.com/NewPortal/yageodocoutput?fileName=/pdf/throughhole/Yageo_LR_CFR_2013.pdf&src-supplier=Digi-Key; Supplier Part Number 1: 9005903
footprint R120
pins: 1, 2

## R120_TH
designator R?, comment 120
footprint R120
pins: 1, 2

## R330
designator R?, comment 330
General Type Carbon Film Resistor 330Ohm 1/4W 5% Axial Bulk; Manufacturer 1: Yageo; Manufacturer Part Number 1: CFR-25JB-52-330R; Resistance: 330R; Temperature Coefficient: 500ppm/°C; Max Power Dissipation: 250mW; Supplier 1: Digi-Key; Stock 1: 34290; Pricing 1: 1=0.10000, 10=0.06800, 25=0.04680, 50=0.03640, 100=0.02600, 250=0.02028, 500=0.01612, 1000=0.01144, 5000=0.00884 (USD); RoHS: Yes; Case/Package: Axial; Min Operating Temperature: -55°C; Max Operating Temperature: 155°C; Package Quantity: 200; Packaging: Bulk; Tolerance: 5%; Resistor Type: Carbon Film; Number of Terminations: 2; Series: Carbon Film; Length: 0.248inch; RoHS Compliant: Yes; ComponentLink1URL: http://www.yageo.com/NewPortal/yageodocoutput?fileName=/pdf/throughhole/Yageo_LR_CFR_2013.pdf&src-supplier=Digi-Key; ComponentLink1Description: http://www.yageo.com/NewPortal/yageodocoutput?fileName=/pdf/throughhole/Yageo_LR_CFR_2013.pdf&src-supplier=Digi-Key; Supplier Part Number 1: 330QBK-ND; Category: Resistors
footprint 330
pins: 1, 2

## R 1k
designator R?, comment 1k
Res Carbon Film 1K Ohm 5% 1/4W -400ppm/°C to 0ppm/°C Conformal AXL Thru-Hole T/R; Manufacturer 1: Stackpole Electronics; Manufacturer Part Number 1: CF14JT1K00; Resistance: 1kR; Power Rating: 250mW; Supplier 1: Arrow Electronics; Stock 1: 285000; Pricing 1: 5000=0.00710, 10000=0.00690, 20000=0.00610 (USD); RoHS: Yes; Mount: Through Hole,Axial; Case/Package: Conformal; Contact Plating: Tin,Matte; Min Operating Temperature: -55°C; Max Operating Temperature: 155°C; Tolerance: 5%; Packaging: Tape and Reel; Package Quantity: 1; Resistor Type: Carbon Film; Temperature Coefficient: -400ppm/°C; Number of Terminations: 2; Termination: Axial; Max Power Dissipation: 250mW; Features: Flame Retardant Coating; Series: CF; Construction: Cylindrical; Diameter: 2.3mm; Length: 6.5mm; Radiation Hardening: No; Military Standard: Not; Lead Free: Lead Free; RoHS Compliant: Yes; ComponentLink1URL: http://components.arrow.com/part/dataview/27620077S9848643N1174?src-supplier=Arrow+Electronics; ComponentLink1Description: http://components.arrow.com/part/dataview/27620077S9848643N1174?src-supplier=Arrow+Electronics; ComponentLink2URL: http://www.seielect.com/Catalog/SEI-CF_CFM.pdf?src-supplier=Future+Electronics; ComponentLink2Description: http://www.seielect.com/Catalog/SEI-CF_CFM.pdf?src-supplier=Future+Electronics; ComponentLink3URL: https://www.seielect.com/catalog/SEI-CF_CFM.pdf?src-supplier=Avnet; ComponentLink3Description: https://www.seielect.com/catalog/SEI-CF_CFM.pdf?src-supplier=Avnet; ComponentLink4URL: https://www.seielect.com/catalog/SEI-Packaging.pdf?src-supplier=Digi-Key; ComponentLink4Description: https://www.seielect.com/catalog/SEI-Packaging.pdf?src-supplier=Digi-Key; ComponentLink5URL: https://www.seielect.com/Catalog/SEI-CF_CFM.pdf?src-supplier=Digi-Key; ComponentLink5Description: https://www.seielect.com/Catalog/SEI-CF_CFM.pdf?src-supplier=Digi-Key; ComponentLink6URL: https://www.verical.com/server-webapp/html/getDatasheet?partID=360403&src-supplier=Verical; ComponentLink6Description: https://www.verical.com/server-webapp/html/getDatasheet?partID=360403&src-supplier=Verical; Supplier Part Number 1: CF14JT1K00; Category: Resistors
footprint R-1k
pins: 1, 2

## R 2.2k
designator R?, comment 2.2k
Res Carbon Film 2.2K Ohm 5% 1/4W -350 to 500ppm/°C Conformal Axial Thru-Hole Bulk; Manufacturer 1: Yageo; Manufacturer Part Number 1: CFR-25JB-52-2K2; Resistance: 2.2kR; Max Power Dissipation: 250mW; Supplier 1: Digi-Key; Stock 1: 60466; Pricing 1: 1=0.10000, 10=0.06800, 25=0.04680, 50=0.03640, 100=0.02600, 250=0.02028, 500=0.01612, 1000=0.01144, 5000=0.00884 (USD); RoHS: Yes; Mount: Through Hole; Case/Package: Axial; Min Operating Temperature: -55°C; Max Operating Temperature: 155°C; Package Quantity: 200; Packaging: Bulk; Tolerance: 5%; Resistor Type: Carbon Film; Temperature Coefficient: 500ppm/°C; Number of Terminations: 2; Series: Carbon Film; Length: 0.248inch; RoHS Compliant: Yes; Lead Free: Lead Free; ComponentLink1URL: http://www.yageo.com/NewPortal/yageodocoutput?fileName=/pdf/throughhole/Yageo_LR_CFR_2013.pdf&src-supplier=Digi-Key; ComponentLink1Description: http://www.yageo.com/NewPortal/yageodocoutput?fileName=/pdf/throughhole/Yageo_LR_CFR_2013.pdf&src-supplier=Digi-Key; Supplier Part Number 1: 2.2KQBK-ND; Category: Resistors
footprint 2.2k
pins: 1, 2

## R 4K7
designator R?, comment 4.7k
Res Carbon Film 4.7K Ohm 5% 1/4W -500ppm/°C to 350ppm/°C Conformal AXL Thru-Hole Paper T/R; Manufacturer 1: Yageo; Manufacturer Part Number 1: CFR-25JR-52-4K7; Resistance: 4.7kR; Max Power Dissipation: 250mW; Voltage Rating: 250V; Lead Diameter: 0.55mm; Supplier 1: Digi-Key; Stock 1: 115000; Pricing 1: 5000=0.00884, 10000=0.00793, 25000=0.00728, 50000=0.00684, 125000=0.00668 (USD); RoHS: Yes; Mount: Through Hole; Case/Package: Axial; Contact Plating: Tin,Matte; Min Operating Temperature: -55°C; Max Operating Temperature: 155°C; Tolerance: 5%; Packaging: Tape and Reel; Package Quantity: 5000; Resistor Type: Carbon Film; Temperature Coefficient: 350ppm/°C; Number of Terminations: 2; Series: CFR; Power Rating: 250mW; Termination: Axial; Diameter: 2.4mm; Length: 6.3mm; Radiation Hardening: No; RoHS Compliant: Yes; Lead Free: Lead Free; ComponentLink1URL: http://www.mouser.com/ds/2/447/Yageo%20LR_CFR_2013-540723.pdf?src-supplier=Mouser; ComponentLink1Description: http://www.mouser.com/ds/2/447/Yageo%20LR_CFR_2013-540723.pdf?src-supplier=Mouser; ComponentLink2URL: http://www.yageo.com/NewPortal/yageodocoutput?fileName=/pdf/throughhole/Yageo_LR_CFR_2013.pdf&src-supplier=Digi-Key; ComponentLink2Description: http://www.yageo.com/NewPortal/yageodocoutput?fileName=/pdf/throughhole/Yageo_LR_CFR_2013.pdf&src-supplier=Digi-Key; ComponentLink3URL: http://www.yageo.com/documents/recent/General%20Type_CFR.pdf?src-supplier=Future+Electronics; ComponentLink3Description: http://www.yageo.com/documents/recent/General%20Type_CFR.pdf?src-supplier=Future+Electronics; ComponentLink4URL: http://www.yageo.com/documents/recent/Yageo%20LR_CFR_2013.pdf?src-supplier=Avnet; ComponentLink4Description: http://www.yageo.com/documents/recent/Yageo%20LR_CFR_2013.pdf?src-supplier=Avnet; Supplier Part Number 1: 4.7KQTR-ND; Category: Resistors
footprint 4.7k
pins: 1, 2

## R 10K
designator R?, comment 10k
Through Hole Carbon Film Resistor, Cfr Series, 10 Kohm, 250 Mw, - 5%, 200 V, Axial Leaded; Manufacturer 1: TE Connectivity; Manufacturer Part Number 1: CFR16J10K; Supplier 1: Avnet; Stock 1: 10000; Pricing 1: 10000=0.00819 (USD); RoHS: Yes; ComponentLink1URL: https://datasheet.ciiva.com/11823/0900766b80098b49-11823186.pdf?src-supplier=RSComponents; ComponentLink1Description: https://datasheet.ciiva.com/11823/0900766b80098b49-11823186.pdf?src-supplier=RSComponents; ComponentLink2URL: https://datasheet.ciiva.com/12362/eng-ds-1773195-d-12362991.pdf?src-supplier=Mouser; ComponentLink2Description: https://datasheet.ciiva.com/12362/eng-ds-1773195-d-12362991.pdf?src-supplier=Mouser; Supplier Part Number 1: 1623927-4
footprint 10k
pins: 1, 2

## Raspberry Pi 4
designator U?
footprint RPI4
text: RPI 4

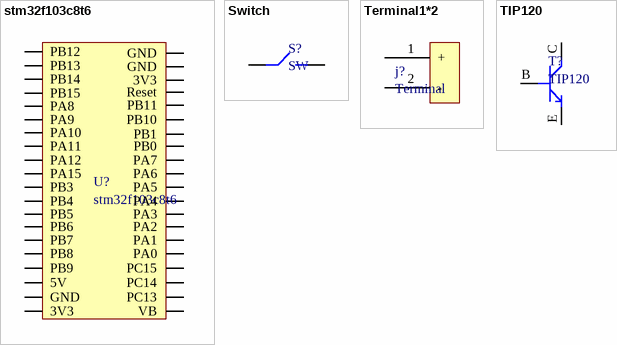
[diagram p1: symbols stm32f103c8t6 to TIP120]

## stm32f103c8t6
designator U?
STM32 Nucleo-32 development board with STM32F031K6 MCU, supports Arduino connectivity; Manufacturer 1: STMicroelectronics; Manufacturer Part Number 1: NUCLEO-F031K6; Evaluation Kit: Yes; Number of Bits: 32; Core Architecture: ARM; Supplier 1: Avnet; Stock 1: 0; Pricing 1: 61=15.28100, 70=14.45500, 130=13.62900, 310=12.80300, 610=11.97700, 3100=11.15100, 6100=10.32500 (USD); RoHS: Yes; Package Quantity: 1; Lead Free: Lead Free; REACH SVHC: No SVHC; ComponentLink1URL: http://www.farnell.com/datasheets/1966773.pdf?src-supplier=Farnell; ComponentLink1Description: http://www.farnell.com/datasheets/1966773.pdf?src-supplier=Farnell; ComponentLink2URL: http://www.farnell.com/datasheets/1966773.pdf?src-supplier=Element14; ComponentLink2Description: http://www.farnell.com/datasheets/1966773.pdf?src-supplier=Element14; ComponentLink3URL: http://www.st.com/st-web-ui/static/active/en/resource/technical/document/user_manual/DM00119724.pdf?s_searchtype=keyword&src-supplier=Avnet; ComponentLink3Description: http://www.st.com/st-web-ui/static/active/en/resource/technical/document/user_manual/DM00119724.pdf?s_searchtype=keyword&src-supplier=Avnet; ComponentLink4URL: http://www.st.com/content/ccc/resource/technical/document/datasheet/4d/c2/7e/10/77/4f/4a/60/DM00104043.pdf/files/DM00104043.pdf/jcr:content/translations/en.DM00104043.pdf?src-supplier=Digi-Key; ComponentLink4Description: http://www.st.com/content/ccc/resource/technical/document/datasheet/4d/c2/7e/10/77/4f/4a/60/DM00104043.pdf/files/DM00104043.pdf/jcr:content/translations/en.DM00104043.pdf?src-supplier=Digi-Key; Supplier Part Number 1: NUCLEO-F031K6; Category: Development Boards, Kits, Programmers
footprint DIP46
pins: 1 VB, 2 PC13, 3 PC14, 4 PC15, 5 PA0, 6 PA1, 7 PA2, 8 PA3, 9 PA4, 10 PA5, 11 PA6, 12 PA7, 13 PB0, 14 PB1, 15 PB10, 16 PB11, 17 Reset, 18 3V3, 19 GND, 20 GND, 27 PB12, 28 PB13, 29 PB14, 30 PB15, 31 PA8, 32 PA9, 33 PA10, 34 PA11, 35 PA12, 36 PA15, 37 PB3, 38 PB4, 39 PB5, 40 PB6, 41 PB7, 42 PB8, 43 PB9, 44 5V, 45 GND, 46 3V3

## Switch
designator S?, comment SW
Switch Slide DIP SPST 25MA 24V; Manufacturer 1: Wurth Electronics; Manufacturer Part Number 1: 418117270901; Body Material: Nylon,Polyamide,PA66; Mechanical Life: 5000Cycles; Number of Positions: 1; Electrical Life: 2000Cycles; Actuator Type: Slide (Standard); Pitch: 0.1inch; Washable: No; Supplier 1: Digi-Key; Stock 1: 5309; Pricing 1: 1=0.94000, 10=0.91800, 50=0.83800, 148=0.75797, 296=0.67801 (USD); RoHS: Yes; Mount: Through Hole; Contact Plating: Gold; Min Operating Temperature: -40°C; Max Operating Temperature: 85°C; Package Quantity: 148; Packaging: Rail/Tube; Current Rating: 25mA; Voltage Rating (DC): 24V; Termination: PC Pin; Throw Configuration: SPST; Series: WS-DITV; Length: 0.139inch; Lead Free: Lead Free; RoHS Compliant: Yes; ComponentLink1URL: https://datasheet.ciiva.com/2864/4181172709xx-2864172.pdf?src-supplier=Digi-Key; ComponentLink1Description: https://datasheet.ciiva.com/2864/4181172709xx-2864172.pdf?src-supplier=Digi-Key; Supplier Part Number 1: 732-3831-5-ND; Category: Switches
footprint DIPSWITCH
pins: 1, 2